# Altium integrated library RS485 TO TTL MODULE.IntLib: 1 symbol
Pins are listed as number, name and electrical type; pins without a type are passive.

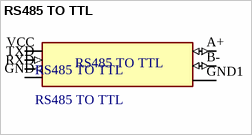
[diagram p0: symbol RS485 TO TTL]

## RS485 TO TTL
designator RS485 TO TTL
footprint RS485 TO TTL
pins: A+ (io), B- (io), GND (power), GND1 (power), RXD (out), TXD (in), VCC (power)